# EAGLE library part RASPI2 (library Z_GessIOMod)
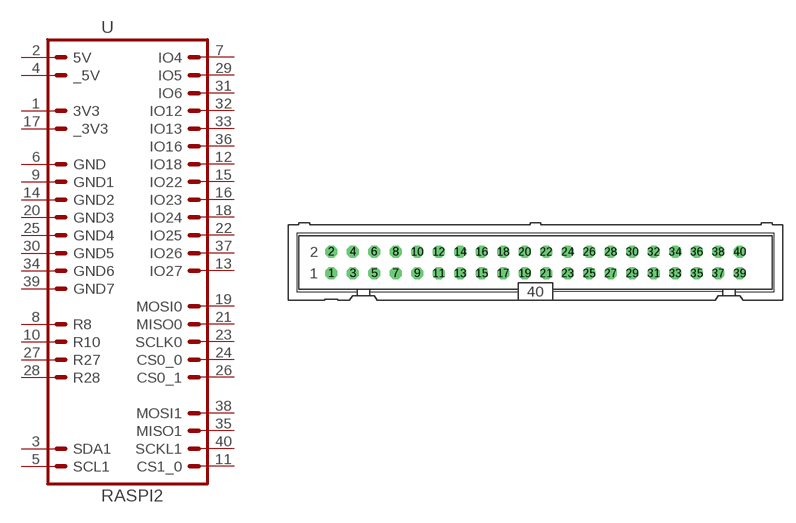
[diagram p8: symbol with the pads of ML40; footprint ML40]

Designator prefix -

## RASPI2  [ML40]
1  3V3  pas
2  5V  pas
3  SDA1  pas
4  _5V  pas
5  SCL1  pas
6  GND  pas
7  IO4  pas
8  R8  pas
9  GND1  pas
10  R10  pas
11  CS1_0  pas
12  IO18  pas
13  IO27  pas
14  GND2  pas
15  IO22  pas
16  IO23  pas
17  _3V3  pas
18  IO24  pas
19  MOSI0  pas
20  GND3  pas
21  MISO0  pas
22  IO25  pas
23  SCLK0  pas
24  CS0_0  pas
25  GND4  pas
26  CS0_1  pas
27  R27  pas
28  R28  pas
29  IO5  pas
30  GND5  pas
31  IO6  pas
32  IO12  pas
33  IO13  pas
34  GND6  pas
35  MISO1  pas
36  IO16  pas
37  IO26  pas
38  MOSI1  pas
39  GND7  pas
40  SCKL1  pas

## Footprint ML40 (pad centres in mm)
HARTING
drill 0.914 octagon: 1 -24.13,-1.27; 2 -24.13,1.27; 3 -21.59,-1.27; 4 -21.59,1.27; 5 -19.05,-1.27; 6 -19.05,1.27; 7 -16.51,-1.27; 8 -16.51,1.27; 9 -13.97,-1.27; 10 -13.97,1.27; 11 -11.43,-1.27; 12 -11.43,1.27; 13 -8.89,-1.27; 14 -8.89,1.27; 15 -6.35,-1.27; 16 -6.35,1.27; 17 -3.81,-1.27; 18 -3.81,1.27; 19 -1.27,-1.27; 20 -1.27,1.27; 21 1.27,-1.27; 22 1.27,1.27; 23 3.81,-1.27; 24 3.81,1.27; 25 6.35,-1.27; 26 6.35,1.27; 27 8.89,-1.27; 28 8.89,1.27; 29 11.43,-1.27; 30 11.43,1.27; 31 13.97,-1.27; 32 13.97,1.27; 33 16.51,-1.27; 34 16.51,1.27; 35 19.05,-1.27; 36 19.05,1.27; 37 21.59,-1.27; 38 21.59,1.27; 39 24.13,-1.27; 40 24.13,1.27